# Altium footprint library Molex Footprints.PcbLib: 498 footprints (part 30 of 32)
Each footprint in its own frame and in the unit in brackets; x right, y up, seen from the top. Pads: shape width x height; smd on the part's side, far side on the other; paste and mask are expansions set on the pad; w line width, h text height; cw(c..) or ccw(c..) is an arc to the next point about the centre after c.
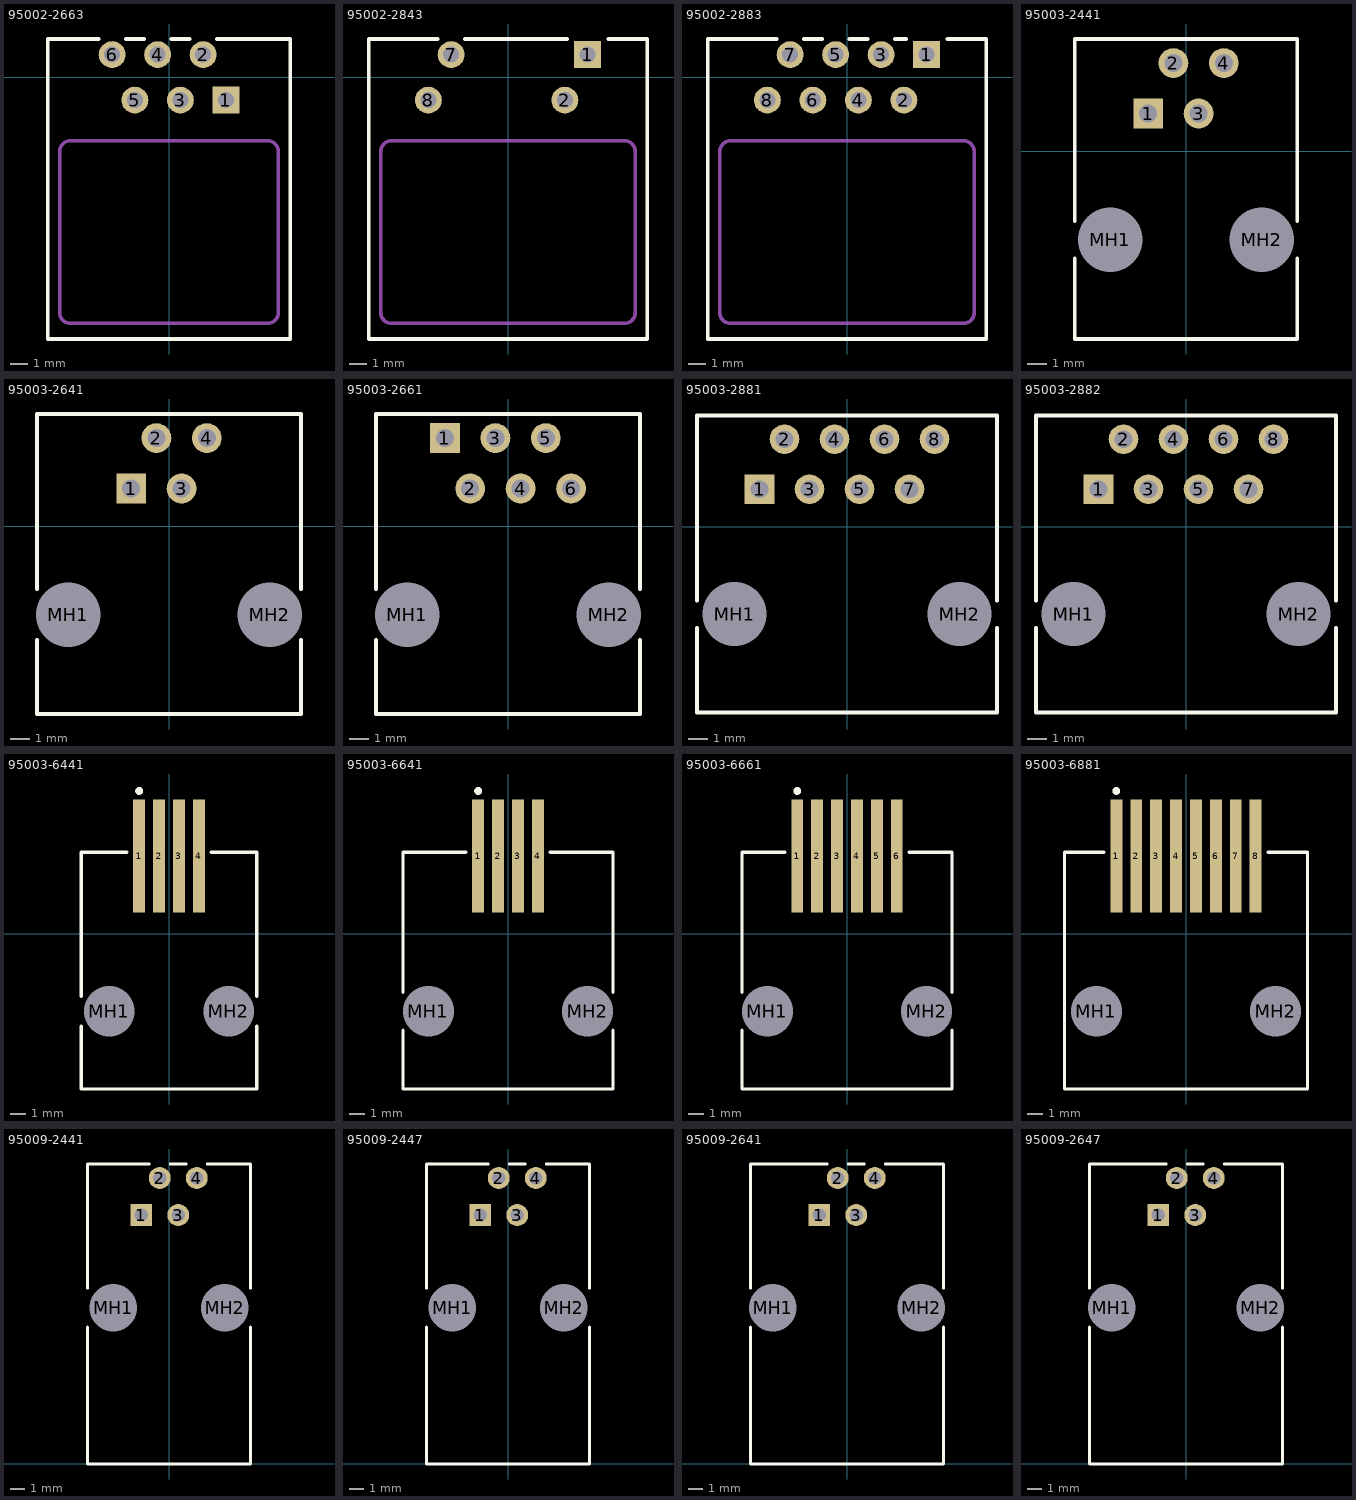
[diagram p29: the footprints below, top view; thin cyan lines are the x and y axes]

## 95002-2663 [mm] "Connector; PCB Jack, Thru-Hole; 1-Port, 6 Positions, 6 Loaded; Unshielded without Lightpipes; Bottom"
height 12.71
pads (6):
  rect 1.5x1.5 hole 0.9: 1(3.175,-1.27)
  round 1.5 hole 0.9: 2(1.905,1.27) 3(0.635,-1.27) 4(-0.635,1.27) 5(-1.905,-1.27) 6(-3.175,1.27)
Top Overlay:
  lines w0.2: -3.927,2.14 -6.775,2.14 -6.775,-14.61 6.775,-14.61 6.775,2.14 2.657,2.14 ; -2.423,2.14 -1.387,2.14 ; 0.117,2.14 1.153,2.14
Mechanical 1:
  lines w0.2: -6.1,-13.14 ccw(c-5.5,-13.14) -5.5,-13.74 5.5,-13.74 ccw(c5.5,-13.14) 6.1,-13.14 6.1,-4.14 ccw(c5.5,-4.14) 5.5,-3.54 -5.5,-3.54 ccw(c-5.5,-4.14) -6.1,-4.14 -6.1,-13.14
  text "Assign" at -5,-6.14 h1.5
  text "Keepout" at -5,-8.14 h1.5
  text "Area to" at -5,-10.14 h1.5
  text "Cut-out" at -5,-12.14 h1.5

## 95002-2843 [mm] "Connector; PCB Jack, Thru-Hole; 1-Port, 8 Positions, 4 Loaded; Unshielded without Lightpipes; Bottom"
height 12.71
pads (4):
  rect 1.5x1.5 hole 0.9: 1(4.445,1.27)
  round 1.5 hole 0.9: 2(3.175,-1.27) 7(-3.175,1.27) 8(-4.445,-1.27)
Top Overlay:
  lines w0.2: -3.927,2.14 -7.775,2.14 -7.775,-14.61 7.775,-14.61 7.775,2.14 5.595,2.14 ; -2.423,2.14 3.295,2.14
Mechanical 1:
  lines w0.2: -7.1,-13.14 ccw(c-6.5,-13.14) -6.5,-13.74 6.5,-13.74 ccw(c6.5,-13.14) 7.1,-13.14 7.1,-4.14 ccw(c6.5,-4.14) 6.5,-3.54 -6.5,-3.54 ccw(c-6.5,-4.14) -7.1,-4.14 -7.1,-13.14
  text "Cut-out" at -5,-12.14 h1.5
  text "Area to" at -5,-10.14 h1.5
  text "Keepout" at -5,-8.14 h1.5
  text "Assign" at -5,-6.14 h1.5

## 95002-2883 [mm] "Connector; PCB Jack, Thru-Hole; 1-Port, 8 Positions, 8 Loaded; Unshielded without Lightpipes; Bottom"
height 12.71
pads (8):
  rect 1.5x1.5 hole 0.9: 1(4.445,1.27)
  round 1.5 hole 0.9: 2(3.175,-1.27) 3(1.905,1.27) 4(0.635,-1.27) 5(-0.635,1.27) 6(-1.905,-1.27) 7(-3.175,1.27) 8(-4.445,-1.27)
Top Overlay:
  lines w0.2: -3.927,2.14 -7.775,2.14 -7.775,-14.61 7.775,-14.61 7.775,2.14 5.595,2.14 ; -2.423,2.14 -1.387,2.14 ; 0.117,2.14 1.153,2.14 ; 2.657,2.14 3.295,2.14
Mechanical 1:
  lines w0.2: -7.1,-13.14 ccw(c-6.5,-13.14) -6.5,-13.74 6.5,-13.74 ccw(c6.5,-13.14) 7.1,-13.14 7.1,-4.14 ccw(c6.5,-4.14) 6.5,-3.54 -6.5,-3.54 ccw(c-6.5,-4.14) -7.1,-4.14 -7.1,-13.14
  text "Assign" at -5,-6.14 h1.5
  text "Keepout" at -5,-8.14 h1.5
  text "Area to" at -5,-10.14 h1.5
  text "Cut-out" at -5,-12.14 h1.5

## 95003-2441 [mm] "Connector; PCB Jack, Thru-Hole; 1-Port, 4 Positions, 4 Loaded; Unshielded without Lightpipes; Vertical"
height 15.7
pads (6):
  rect 1.5x1.5 hole 0.9: 1(-1.905,1.905)
  round 1.5 hole 0.9: 2(-0.635,4.445) 3(0.635,1.905) 4(1.905,4.445)
  round 2.95 hole 3.25 unplated: MH1(-3.81,-4.445) MH2(3.81,-4.445)
Top Overlay:
  lines w0.2: -5.6,-5.392 -5.6,-9.445 5.6,-9.445 5.6,-5.392 ; -5.6,-3.498 -5.6,5.655 5.6,5.655 5.6,-3.498

## 95003-2641 [mm] "Connector; PCB Jack, Thru-Hole; 1-Port, 6 Positions, 4 Loaded; Unshielded without Lightpipes; Vertical"
height 15.7
pads (6):
  rect 1.5x1.5 hole 0.9: 1(-1.905,1.905)
  round 1.5 hole 0.9: 2(-0.635,4.445) 3(0.635,1.905) 4(1.905,4.445)
  round 2.95 hole 3.25 unplated: MH1(-5.08,-4.445) MH2(5.08,-4.445)
Top Overlay:
  lines w0.2: -6.65,-5.724 -6.65,-9.445 6.65,-9.445 6.65,-5.724 ; -6.65,-3.166 -6.65,5.655 6.65,5.655 6.65,-3.166

## 95003-2661 [mm] "Connector; PCB Jack, Thru-Hole; 1-Port, 6 Positions, 6 Loaded; Unshielded without Lightpipes; Vertical"
height 15.7
pads (8):
  rect 1.5x1.5 hole 0.9: 1(-3.175,4.445)
  round 1.5 hole 0.9: 2(-1.905,1.905) 3(-0.635,4.445) 4(0.635,1.905) 5(1.905,4.445) 6(3.175,1.905)
  round 2.95 hole 3.25 unplated: MH1(-5.08,-4.445) MH2(5.08,-4.445)
Top Overlay:
  lines w0.2: -6.65,-5.724 -6.65,-9.445 6.65,-9.445 6.65,-5.724 ; -6.65,-3.166 -6.65,5.655 6.65,5.655 6.65,-3.166

## 95003-2881 [mm] "Connector; PCB Jack, Thru-Hole; 1-Port, 8 Positions, 8 Loaded; Unshielded without Lightpipes; Vertical"
height 15.7
pads (10):
  rect 1.5x1.5 hole 0.9: 1(-4.445,1.905)
  round 1.5 hole 0.9: 2(-3.175,4.445) 3(-1.905,1.905) 4(-0.635,4.445) 5(0.635,1.905) 6(1.905,4.445) 7(3.175,1.905) 8(4.445,4.445)
  round 2.95 hole 3.25 unplated: MH1(-5.715,-4.445) MH2(5.715,-4.445)
Top Overlay:
  lines w0.2: -7.62,-5.132 -7.62,-9.445 7.62,-9.445 7.62,-5.132 ; -7.62,-3.758 -7.62,5.655 7.62,5.655 7.62,-3.758

## 95003-2882 [mm] "Connector; PCB Jack, Thru-Hole; 1-Port, 8 Positions, 8 Loaded; Unshielded without Lightpipes; Vertical"
height 15.7
pads (10):
  rect 1.5x1.5 hole 0.9: 1(-4.445,1.905)
  round 1.5 hole 0.9: 2(-3.175,4.445) 3(-1.905,1.905) 4(-0.635,4.445) 5(0.635,1.905) 6(1.905,4.445) 7(3.175,1.905) 8(4.445,4.445)
  round 2.95 hole 3.25 unplated: MH1(-5.715,-4.445) MH2(5.715,-4.445)
Top Overlay:
  lines w0.2: -7.62,-5.132 -7.62,-9.445 7.62,-9.445 7.62,-5.132 ; -7.62,-3.758 -7.62,5.655 7.62,5.655 7.62,-3.758

## 95003-6441 [mm] "Connector; PCB Jack, SM; 1-Port, 4 Positions, 4 Loaded; Unshielded without Lightpipes; Vertical"
height 15.7
pads (6):
  rect 0.76x7.2 smd: 1(-1.905,4.95) 2(-0.635,4.95) 3(0.635,4.95) 4(1.905,4.95)
  round 2.95 hole 3.25 unplated: MH1(-3.81,-4.95) MH2(3.81,-4.95)
Top Overlay:
  circle w0.25: c-1.905,9.1 r0.125
  lines w0.2: -5.6,-5.897 -5.6,-9.91 5.6,-9.91 5.6,-5.897 ; -5.6,-4.003 -5.6,5.19 -2.685,5.19 ; 2.685,5.19 5.6,5.19 5.6,-4.003

## 95003-6641 [mm] "Connector; PCB Jack, SM; 1-Port, 6 Positions, 4 Loaded; Unshielded without Lightpipes; Vertical"
height 15.7
pads (6):
  rect 0.76x7.2 smd: 1(-1.905,4.95) 2(-0.635,4.95) 3(0.635,4.95) 4(1.905,4.95)
  round 2.95 hole 3.25 unplated: MH1(-5.08,-4.95) MH2(5.08,-4.95)
Top Overlay:
  circle w0.25: c-1.905,9.1 r0.125
  lines w0.2: -6.7,-6.165 -6.7,-9.91 6.7,-9.91 6.7,-6.165 ; -6.7,-3.735 -6.7,5.19 -2.685,5.19 ; 2.685,5.19 6.7,5.19 6.7,-3.735

## 95003-6661 [mm] "Connector; PCB Jack, SM; 1-Port, 6 Positions, 6 Loaded; Unshielded without Lightpipes; Vertical"
height 15.7
pads (8):
  rect 0.76x7.2 smd: 1(-3.175,4.95) 2(-1.905,4.95) 3(-0.635,4.95) 4(0.635,4.95) 5(1.905,4.95) 6(3.175,4.95)
  round 2.95 hole 3.25 unplated: MH1(-5.08,-4.95) MH2(5.08,-4.95)
Top Overlay:
  circle w0.25: c-3.175,9.1 r0.125
  lines w0.2: -6.7,-6.165 -6.7,-9.91 6.7,-9.91 6.7,-6.165 ; -6.7,-3.735 -6.7,5.19 -3.955,5.19 ; 3.955,5.19 6.7,5.19 6.7,-3.735

## 95003-6881 [mm] "Connector; PCB Jack, SM; 1-Port, 8 Positions, 8 Loaded; Unshielded without Lightpipes; Vertical"
height 15.7
pads (10):
  rect 0.76x7.2 smd: 1(-4.445,4.95) 2(-3.175,4.95) 3(-1.905,4.95) 4(-0.635,4.95) 5(0.635,4.95) 6(1.905,4.95) 7(3.175,4.95) 8(4.445,4.95)
  round 2.95 hole 3.25 unplated: MH1(-5.715,-4.95) MH2(5.715,-4.95)
Top Overlay:
  circle w0.25: c-4.445,9.1 r0.125
  lines w0.2: -5.225,5.19 -7.74,5.19 -7.74,-9.91 7.74,-9.91 7.74,5.19 5.225,5.19

## 95009-2441 [mm] "Connector; PCB Jack, Thru-Hole; 1-Port, 4 Positions, 4 Loaded; Unshielded without Lightpipes; Right Angle"
height 16
pads (6):
  rect 1.5x1.5 hole 0.9: 1(-1.905,17.07)
  round 1.5 hole 0.9: 2(-0.635,19.61) 3(0.635,17.07) 4(1.905,19.61)
  round 2.95 hole 3.25 unplated: MH1(-3.81,10.72) MH2(3.81,10.72)
Top Overlay:
  lines w0.2: -5.59,9.388 -5.59,0 5.59,0 5.59,9.388 ; -5.59,12.052 -5.59,20.57 -1.355,20.57 ; 0.085,20.57 1.185,20.57 ; 2.625,20.57 5.59,20.57 5.59,12.052

## 95009-2447 [mm] "Connector; PCB Jack, Thru-Hole; 1-Port, 4 Positions, 4 Loaded; Unshielded without Lightpipes; Right Angle"
height 16
pads (6):
  rect 1.5x1.5 hole 0.9: 1(-1.905,17.07)
  round 1.5 hole 0.9: 2(-0.635,19.61) 3(0.635,17.07) 4(1.905,19.61)
  round 2.95 hole 3.25 unplated: MH1(-3.81,10.72) MH2(3.81,10.72)
Top Overlay:
  lines w0.2: -5.59,9.388 -5.59,0 5.59,0 5.59,9.388 ; -5.59,12.052 -5.59,20.57 -1.355,20.57 ; 0.085,20.57 1.185,20.57 ; 2.625,20.57 5.59,20.57 5.59,12.052

## 95009-2641 [mm] "Connector; PCB Jack, Thru-Hole; 1-Port, 6 Positions, 4 Loaded; Unshielded without Lightpipes; Right Angle"
height 16
pads (6):
  rect 1.5x1.5 hole 0.9: 1(-1.905,17.07)
  round 1.5 hole 0.9: 2(-0.635,19.61) 3(0.635,17.07) 4(1.905,19.61)
  round 2.95 hole 3.25 unplated: MH1(-5.08,10.72) MH2(5.08,10.72)
Top Overlay:
  lines w0.2: -6.605,9.388 -6.605,0 6.605,0 6.605,9.388 ; -6.605,12.052 -6.605,20.57 -1.355,20.57 ; 0.085,20.57 1.185,20.57 ; 2.625,20.57 6.605,20.57 6.605,12.052

## 95009-2647 [mm] "Connector; PCB Jack, Thru-Hole; 1-Port, 6 Positions, 4 Loaded; Unshielded without Lightpipes; Right Angle"
height 16
pads (6):
  rect 1.5x1.5 hole 0.9: 1(-1.905,17.07)
  round 1.5 hole 0.9: 2(-0.635,19.61) 3(0.635,17.07) 4(1.905,19.61)
  round 2.95 hole 3.25 unplated: MH1(-5.08,10.72) MH2(5.08,10.72)
Top Overlay:
  lines w0.2: -6.605,9.388 -6.605,0 6.605,0 6.605,9.388 ; -6.605,12.052 -6.605,20.57 -1.355,20.57 ; 0.085,20.57 1.185,20.57 ; 2.625,20.57 6.605,20.57 6.605,12.052